# Altium schematic symbol library 885012210032.SchLib: 1 symbol
Pins are listed as number, name and electrical type; pins without a type are passive.

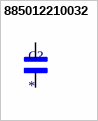
[diagram p0: symbol 885012210032]

## 885012210032
designator C?
<b> WCAP-CSGP Ceramic Capacitors <br> <br> <br><b>Characteristics </b><br> </b><br>Multilayer Ceramic Chip Capacitor <br>Recommended soldering:Reflow, for 0603 and 0805 wave soldering is also allowed <br>Operating temperature:-55 Â°C to +125 Â°C; <br>Ceramic characteristics: Class I - NPO ; Class II -X7R, X5R <br>High performance ceramic <br>High capacitance stability <br>Minimal aging  <br>Termination:Cu/Ni/Sn <br>   <br><a href="http://katalog.we-online.de/media/images/eisos/WCAP-CSGP_pf2.jpg" title="Enlarge picture"> <img src="http://katalog.we-online.de/media/thumbs2/eisos/thb_WCAP-CSGP_pf2.jpg" width="320"></a><p> Details see: <a href="http://katalog.we-online.de/en/pbs/WCAP-CSGP-1812?">http://katalog.we-online.de/en/pbs/WCAP-CSGP-1812? </a><p>Created:  2015-01-28 <br>2015 (C) Wurth Elektronik; MP: 885012210032; MF: {'manufacturer': u'Wurth Electronics Inc'}; Package: None; Availability: Unavailable; Price: None; Value: *
footprint WCAP-CSGP_885012210032
pins: 1, 2